# EAGLE library part NRPN06 (library con-sullins-nrpn)
HEADER
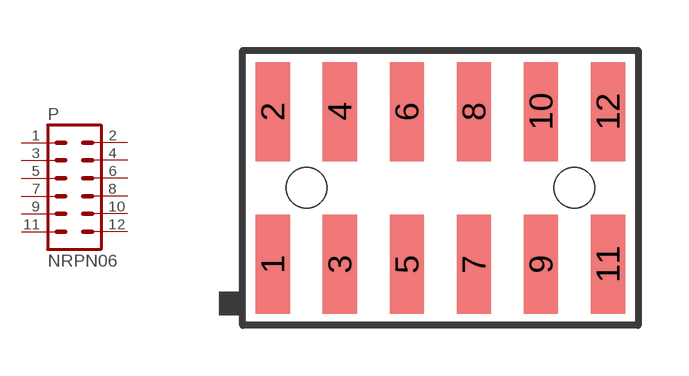
[diagram p3: symbol with the pads of NRPN06; footprint NRPN06]

Designator prefix P

## NRPN06  [NRPN06]
1  1  pas
2  2  pas
3  3  pas
4  4  pas
5  5  pas
6  6  pas
7  7  pas
8  8  pas
9  9  pas
10  10  pas
11  11  pas
12  12  pas

## Footprint NRPN06 (pad centres in mm)
HEADER
smd 1.02 x 2.95: 1 -5,-2.275; 2 -5,2.275; 3 -3,-2.275; 4 -3,2.275; 5 -1,-2.275; 6 -1,2.275; 7 1,-2.275; 8 1,2.275; 9 3,-2.275; 10 3,2.275; 11 5,-2.275; 12 5,2.275
hole 1.2 at -4,0
hole 1.2 at 4,0